# Altium schematic symbol library EMDC_Analog.SchLib: 8 symbols
Pins are listed as number, name and electrical type; pins without a type are passive.

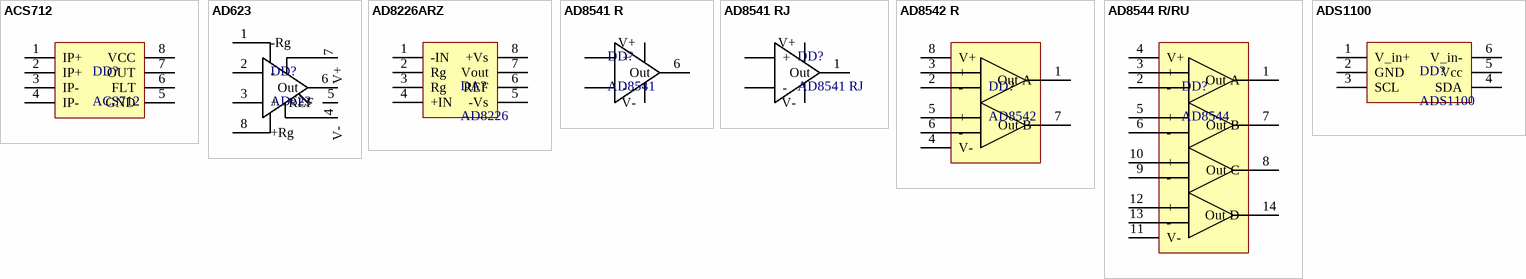
[diagram p0: symbols ACS712 to ADS1100]

## ACS712
designator DD?
Current meter IC
footprint SO-8
pins: 1 IP+, 2 IP+, 3 IP-, 4 IP-, 5 GND, 6 FLT, 7 OUT, 8 VCC

## AD623
designator DD?
Analog Devices Instrumental OpAmp SO-8
footprint SO-8
footprint MSOP-8
pins: 1 -Rg, 2 -, 3 +, 4 V-, 5 REF, 6 Out, 7 V+, 8 +Rg

## AD8226ARZ
designator DA?, comment AD8226
Rail-to-rail instrumental OpAmp
footprint SOIC-8N
pins: 1 -IN, 2 Rg, 3 Rg, 4 +IN, 5 -Vs, 6 REF, 7 Vout, 8 +Vs

## AD8541 R
designator DD?, comment AD8541
Analog Devices OpAmp SO-8
footprint SO-8
pins: 2 -, 3 +, 4 V-, 6 Out, 7 V+

## AD8541 RJ
designator DD?
Analog Devices OpAmp SOT-23-5
footprint SOT-23-5
pins: 1 Out, 2 V-, 3 +, 4 -, 5 V+

## AD8542 R
designator DD?, comment AD8542
Analog Devices OpAmp x2 SO-8
footprint SO-8
footprint MSOP-8
pins: 1 Out A, 2 -, 3 +, 4 V-, 5 +, 6 -, 7 Out B, 8 V+

## AD8544 R/RU
designator DD?, comment AD8544
Analog Devices OpAmp x4 SO-14
footprint SO-14
footprint TSSOP-14
pins: 1 Out A, 2 -, 3 +, 4 V+, 5 +, 6 -, 7 Out B, 8 Out C, 9 -, 10 +, 11 V-, 12 +, 13 -, 14 Out D

## ADS1100
designator DD?
I2C ADC with PGA
footprint SOT-23-6
pins: 1 V_in+, 2 GND, 3 SCL, 4 SDA, 5 Vcc, 6 V_in-